# EAGLE library part MAX232 (library HelaTronix - IC Special Functions)
RS232 TRANSCEIVER
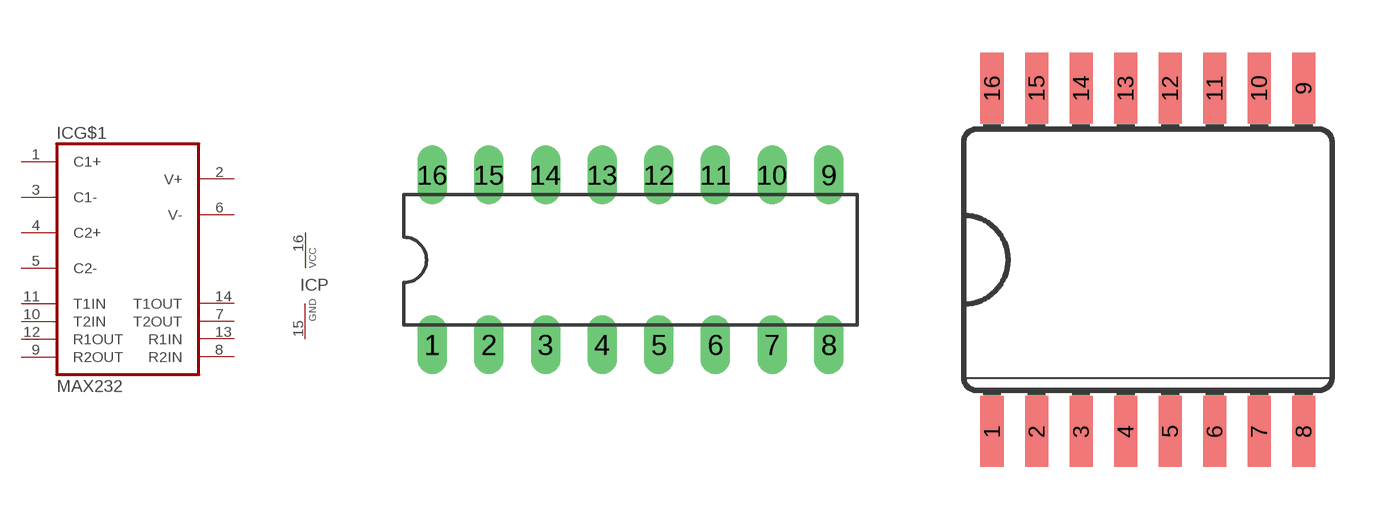
[diagram p10: symbol with the pads of DIL16; footprints DIL16, SO16L]

Designator prefix IC; gates G$1=MAX232 P=VCC-GND

## MAX232 (MF: MAXIM; MPN: MAX232ACPE+; OC_FARNELL: 9723773; OC_NEWARK: 68K4544)  [DIL16]
1  G$1:C1+
2  G$1:V+
3  G$1:C1-
4  G$1:C2+
5  G$1:C2-
6  G$1:V-
7  G$1:T2OUT  out
8  G$1:R2IN  in
9  G$1:R2OUT  out
10  G$1:T2IN  in
11  G$1:T1IN  in
12  G$1:R1OUT  out
13  G$1:R1IN  in
14  G$1:T1OUT  out
15  P:GND  pwr
16  P:VCC  pwr

## MAX232-SO16L  [SO16L]
Pads as for DIL16

## MAX232-SOIC-16  [SOIC-16]
Pads as for DIL16

## Footprint DIL16 (pad centres in mm)
Dual In Line Package
drill 0.813 long: 1 -8.89,-3.81; 2 -6.35,-3.81; 3 -3.81,-3.81; 4 -1.27,-3.81; 5 1.27,-3.81; 6 3.81,-3.81; 7 6.35,-3.81; 8 8.89,-3.81; 9 8.89,3.81; 10 6.35,3.81; 11 3.81,3.81; 12 1.27,3.81; 13 -1.27,3.81; 14 -3.81,3.81; 15 -6.35,3.81; 16 -8.89,3.81

## Footprint SO16L (pad centres in mm)
Small Outline Package .300 SIOC Source: http://www.maxim-ic.com/cgi-bin/packages?pkg=16%2FSOIC%2E300&Type=Max
smd 0.66 x 2.032: 1 -4.445,-4.902; 2 -3.175,-4.902; 3 -1.905,-4.902; 4 -0.635,-4.902; 5 0.635,-4.902; 6 1.905,-4.902; 7 3.175,-4.902; 8 4.445,-4.902; 9 4.445,4.902; 10 3.175,4.902; 11 1.905,4.902; 12 0.635,4.902; 13 -0.635,4.902; 14 -1.905,4.902; 15 -3.175,4.902; 16 -4.445,4.902

## Footprint SOIC-16 (pad centres in mm)
16-SOIC, 1.27 mm pitch, 6.10 mm span, 10.00 X 3.90 X 1.75 mm body 16-pin SOIC package with 1.27 mm pitch, 6.10 mm span with body size 10.00 X 3.90 X 1.75 mm
smd 2.035 x 0.602: 1 -2.538,4.445; 2 -2.538,3.175; 3 -2.538,1.905; 4 -2.538,0.635; 5 -2.538,-0.635; 6 -2.538,-1.905; 7 -2.538,-3.175; 8 -2.538,-4.445; 9 2.538,-4.445; 10 2.538,-3.175; 11 2.538,-1.905; 12 2.538,-0.635; 13 2.538,0.635; 14 2.538,1.905; 15 2.538,3.175; 16 2.538,4.445